# Altium schematic symbol library SCH - MCU - NUVOTON - NUVOTON M031EC1AE.SchLib: 1 symbol
Pins are listed as number, name and electrical type; pins without a type are passive.

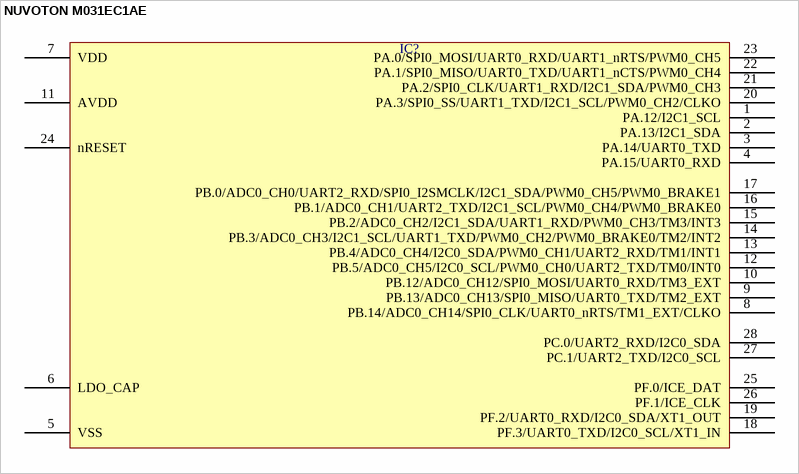
[diagram p0: symbol NUVOTON M031EC1AE]

## NUVOTON M031EC1AE
designator IC?  (value not drawn)
pins: 1 PA.12/I2C1_SCL, 2 PA.13/I2C1_SDA, 3 PA.14/UART0_TXD, 4 PA.15/UART0_RXD, 5 VSS, 6 LDO_CAP, 7 VDD, 8 PB.14/ADC0_CH14/SPI0_CLK/UART0_nRTS/TM1_EXT/CLKO, 9 PB.13/ADC0_CH13/SPI0_MISO/UART0_TXD/TM2_EXT, 10 PB.12/ADC0_CH12/SPI0_MOSI/UART0_RXD/TM3_EXT, 11 AVDD, 12 PB.5/ADC0_CH5/I2C0_SCL/PWM0_CH0/UART2_TXD/TM0/INT0, 13 PB.4/ADC0_CH4/I2C0_SDA/PWM0_CH1/UART2_RXD/TM1/INT1, 14 PB.3/ADC0_CH3/I2C1_SCL/UART1_TXD/PWM0_CH2/PWM0_BRAKE0/TM2/INT2, 15 PB.2/ADC0_CH2/I2C1_SDA/UART1_RXD/PWM0_CH3/TM3/INT3, 16 PB.1/ADC0_CH1/UART2_TXD/I2C1_SCL/PWM0_CH4/PWM0_BRAKE0, 17 PB.0/ADC0_CH0/UART2_RXD/SPI0_I2SMCLK/I2C1_SDA/PWM0_CH5/PWM0_BRAKE1, 18 PF.3/UART0_TXD/I2C0_SCL/XT1_IN, 19 PF.2/UART0_RXD/I2C0_SDA/XT1_OUT, 20 PA.3/SPI0_SS/UART1_TXD/I2C1_SCL/PWM0_CH2/CLKO, 21 PA.2/SPI0_CLK/UART1_RXD/I2C1_SDA/PWM0_CH3, 22 PA.1/SPI0_MISO/UART0_TXD/UART1_nCTS/PWM0_CH4, 23 PA.0/SPI0_MOSI/UART0_RXD/UART1_nRTS/PWM0_CH5, 24 nRESET, 25 PF.0/ICE_DAT, 26 PF.1/ICE_CLK, 27 PC.1/UART2_TXD/I2C0_SCL, 28 PC.0/UART2_RXD/I2C0_SDA